# Altium schematic symbol library MMC5x83.SchLib: 1 symbol
Pins are listed as number, name and electrical type; pins without a type are passive.

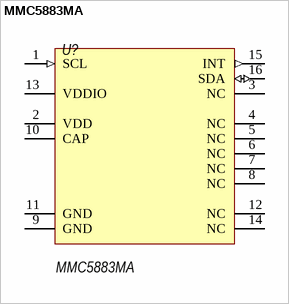
[diagram p0: symbol MMC5883MA]

## MMC5883MA
designator U?
footprint LGA16
pins: 1 SCL (in), 2 VDD (power), 3 NC, 4 NC, 5 NC, 6 NC, 7 NC, 8 NC, 9 GND (power), 10 CAP, 11 GND (power), 12 NC, 13 VDDIO (power), 14 NC, 15 INT (out), 16 SDA (io)